# Altium schematic symbol library ATSAMD21E17A-AUT.SchLib: 1 symbol
Pins are listed as number, name and electrical type; pins without a type are passive.

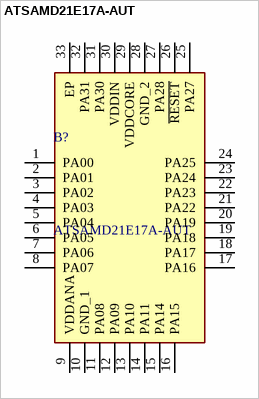
[diagram p0: symbol ATSAMD21E17A-AUT]

## ATSAMD21E17A-AUT
designator B?
IC MCU 32BIT 128KB FLASH 32TQFP; Manufacturer_Name: Microchip; Geometry.Height: 1mm; Mouser Part Number: 556-ATSAMD21E17A-AUT; Mouser Price/Stock: https://www.mouser.co.uk/ProductDetail/Microchip-Technology/ATSAMD21E17A-AUT?qs=KLFHFgXTQiBLmA2MEeDLVA%3D%3D; Manufacturer_Part_Number: ATSAMD21E17A-AUT; Datasheet Link: https://4donline.ihs.com/images/VipMasterIC/IC/MCHP/MCHP-S-A0011993473/MCHP-S-A0013581487-1.pdf?hkey=EF798316E3902B6ED9A73243A3159BB0
footprint QFN50P500X500X100-33N-D
pins: 1 PA00, 2 PA01, 3 PA02, 4 PA03, 5 PA04, 6 PA05, 7 PA06, 8 PA07, 9 VDDANA, 10 GND_1, 11 PA08, 12 PA09, 13 PA10, 14 PA11, 15 PA14, 16 PA15, 17 PA16, 18 PA17, 19 PA18, 20 PA19, 21 PA22, 22 PA23, 23 PA24, 24 PA25, 25 PA27, 26 ~{RESET}, 27 PA28, 28 GND_2, 29 VDDCORE, 30 VDDIN, 31 PA30, 32 PA31, 33 EP